# Altium integrated library 104.IntLib: 1 symbol
Pins are listed as number, name and electrical type; pins without a type are passive.

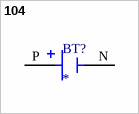
[diagram p0: symbol 104]

## 104
designator BT?
MP: 104; Package: None; Price: None; Availability: Unavailable; Value: *
footprint BAT_104
pins: N NEG, P POS